# Altium footprint library EPCOS Transformators.PcbLib: 3 footprints
Each footprint in its own frame and in the unit in brackets; x right, y up, seen from the top. Pads: shape width x height; smd on the part's side, far side on the other; paste and mask are expansions set on the pad; w line width, h text height; cw(c..) or ccw(c..) is an arc to the next point about the centre after c.
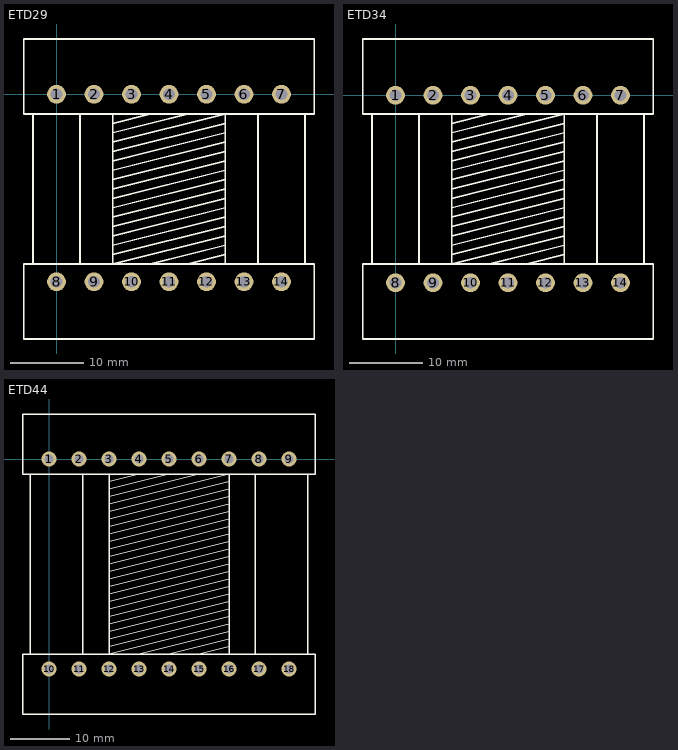
[diagram p0: the footprints below, top view; thin cyan lines are the x and y axes]

## ETD29 [mm] "Transformator"
height 25
pads (14):
  rrect100% 2.54x2.54 hole 1.6: 1(0,0) 2(5.08,0) 3(10.16,0) 4(15.24,0) 5(20.32,0) 6(25.4,0) 7(30.48,0) 8(0,-25.4) 9(5.08,-25.4) 10(10.16,-25.4) 11(15.24,-25.4) 12(20.32,-25.4) 13(25.4,-25.4) 14(30.48,-25.4)
Top Overlay:
  lines w0.254: -3.175,-22.987 -3.175,-2.667 ; 3.175,-22.987 3.175,-2.667 ; 7.62,-21.717 22.86,-17.907 ; 7.62,-20.447 22.86,-16.637 ; 7.62,-19.177 22.86,-15.367 ; 7.62,-17.907 22.86,-14.097 ; 7.62,-16.637 22.86,-12.827 ; 7.62,-15.367 22.86,-11.557 ; 7.62,-14.097 22.86,-10.287 ; 7.62,-12.827 22.86,-9.017 ; 7.62,-11.557 22.86,-7.747 ; 7.62,-10.287 22.86,-6.477 ; 7.62,-9.017 22.86,-5.207 ; 7.62,-7.747 22.86,-3.937 ; 7.62,-6.477 22.86,-2.667 22.86,-22.987 ; 7.62,-5.207 17.78,-2.667 ; 7.62,-3.937 12.7,-2.667 ; 7.62,-2.667 7.62,-22.987 22.86,-19.177 ; 12.7,-22.987 22.86,-20.447 ; 17.78,-22.987 22.86,-21.717 ; 27.305,-22.987 27.305,-2.667 ; 33.655,-22.987 33.655,-2.667 ; -4.445,-33.147 34.925,-33.147 34.925,-22.987 -4.445,-22.987 -4.445,-33.147 ; -4.445,-2.667 -4.445,7.493 34.925,7.493 34.925,-2.667 -4.445,-2.667

## ETD34 [mm] "Transformator"
height 33.1
pads (14):
  round 2.54 hole 1.6: 1(0,0) 2(5.08,0) 3(10.16,0) 4(15.24,0) 5(20.32,0) 6(25.4,0) 7(30.48,0) 8(0,-25.4) 9(5.08,-25.4) 10(10.16,-25.4) 11(15.24,-25.4) 12(20.32,-25.4) 13(25.4,-25.4) 14(30.48,-25.4)
Top Overlay:
  lines w0.254: -3.175,-22.86 -3.175,-2.54 ; 3.175,-22.86 3.175,-2.54 ; 7.62,-21.59 22.86,-17.78 ; 7.62,-20.32 22.86,-16.51 ; 7.62,-19.05 22.86,-15.24 ; 7.62,-17.78 22.86,-13.97 ; 7.62,-16.51 22.86,-12.7 ; 7.62,-15.24 22.86,-11.43 ; 7.62,-13.97 22.86,-10.16 ; 7.62,-12.7 22.86,-8.89 ; 7.62,-11.43 22.86,-7.62 ; 7.62,-10.16 22.86,-6.35 ; 7.62,-8.89 22.86,-5.08 ; 7.62,-7.62 22.86,-3.81 ; 7.62,-6.35 22.86,-2.54 22.86,-22.86 ; 7.62,-5.08 17.78,-2.54 ; 7.62,-3.81 12.7,-2.54 ; 7.62,-2.54 7.62,-22.86 22.86,-19.05 ; 12.7,-22.86 22.86,-20.32 ; 17.78,-22.86 22.86,-21.59 ; 27.305,-22.86 27.305,-2.54 ; 33.655,-22.86 33.655,-2.54 ; -4.445,-33.02 -4.445,-22.86 34.925,-22.86 34.925,-33.02 -4.445,-33.02 ; -4.445,-2.54 34.925,-2.54 34.925,7.62 -4.445,7.62 -4.445,-2.54
3D body: height 32.9, standoff -2.44, extent -4.56,-33.2 35.04,7.8

## ETD44 [mm] "Transformator"
height 38.4
pads (18):
  round 2.54 hole 1.6: 1(0,0) 2(5.08,0) 3(10.16,0) 4(15.24,0) 5(20.32,0) 6(25.4,0) 7(30.48,0) 8(35.56,0) 9(40.64,0) 10(0,-35.56) 11(5.08,-35.56) 12(10.16,-35.56) 13(15.24,-35.56) 14(20.32,-35.56) 15(25.4,-35.56) 16(30.48,-35.56) 17(35.56,-35.56) 18(40.64,-35.56)
Top Overlay:
  lines w0.254: -3.175,-33.02 -3.175,-2.54 ; 5.715,-33.02 5.715,-2.54 ; 10.16,-31.75 30.48,-26.67 ; 10.16,-30.48 30.48,-25.4 ; 10.16,-29.21 30.48,-24.13 ; 10.16,-27.94 30.48,-22.86 ; 10.16,-26.67 30.48,-21.59 ; 10.16,-25.4 30.48,-20.32 ; 10.16,-24.13 30.48,-19.05 ; 10.16,-22.86 30.48,-17.78 ; 10.16,-21.59 30.48,-16.51 ; 10.16,-20.32 30.48,-15.24 ; 10.16,-19.05 30.48,-13.97 ; 10.16,-17.78 30.48,-12.7 ; 10.16,-16.51 30.48,-11.43 ; 10.16,-15.24 30.48,-10.16 ; 10.16,-13.97 30.48,-8.89 ; 10.16,-12.7 30.48,-7.62 ; 10.16,-11.43 30.48,-6.35 ; 10.16,-10.16 30.48,-5.08 ; 10.16,-8.89 30.48,-3.81 ; 10.16,-7.62 30.48,-2.54 30.48,-33.02 ; 10.16,-6.35 25.4,-2.54 ; 10.16,-5.08 20.32,-2.54 ; 10.16,-3.81 15.24,-2.54 ; 10.16,-2.54 10.16,-33.02 30.48,-27.94 ; 15.24,-33.02 30.48,-29.21 ; 20.32,-33.02 30.48,-30.48 ; 25.4,-33.02 30.48,-31.75 ; 34.925,-33.02 34.925,-2.54 ; 43.815,-33.02 43.815,-2.54 ; -4.445,-43.18 -4.445,-33.02 45.085,-33.02 45.085,-43.18 -4.445,-43.18 ; -4.445,-2.54 -4.445,7.62 45.085,7.62 45.085,-2.54 -4.445,-2.54
3D body: height 38.1, standoff -4.5, extent -4.48,-43.28 45.12,7.72